# Altium schematic symbol library C2Sv0 - Adaptor.SchLib: 2 symbols
Pins are listed as number, name and electrical type; pins without a type are passive.

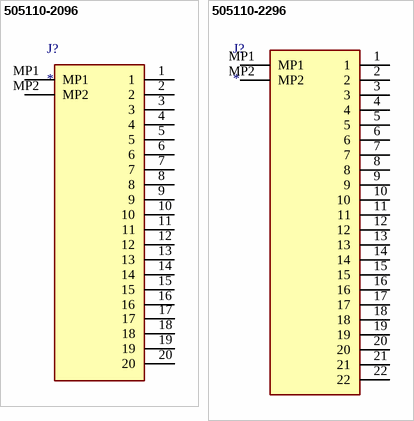
[diagram p0: symbols 505110-2096 to 505110-2296]

## 505110-2096
designator J?
Connector; Manufacturer_Name: Molex; Manufacturer_Part_Number: 505110-2096; Datasheet Link: https://componentsearchengine.com/Datasheets/1/505110-2096.pdf; Height: 2.1mm; Mouser Part Number: 538-505110-2096; Mouser Price/Stock: https://www.mouser.co.uk/ProductDetail/Molex/505110-2096?qs=IvjI65BR3TVK2gHWyfgM0A%3D%3D
footprint 505110-2096
pins: 1, 2, 3, 4, 5, 6, 7, 8, 9, 10, 11, 12, 13, 14, 15, 16, 17, 18, 19, 20, MP1, MP2

## 505110-2296
designator J?
Connector; Manufacturer_Name: Molex; Manufacturer_Part_Number: 505110-2296; Datasheet Link: https://www.molex.com/pdm_docs/sd/5051102296_sd.pdf; Height: 2.1mm; Mouser Part Number: 538-505110-2296; Mouser Price/Stock: https://www.mouser.co.uk/ProductDetail/Molex/505110-2296?qs=IvjI65BR3TWV%252BB%252BT0zqCcg%3D%3D
footprint 505110-2296
pins: 1, 2, 3, 4, 5, 6, 7, 8, 9, 10, 11, 12, 13, 14, 15, 16, 17, 18, 19, 20, 21, 22, MP1, MP2